# Altium schematic symbol library 7499011121A.SchLib: 1 symbol
Pins are listed as number, name and electrical type; pins without a type are passive.

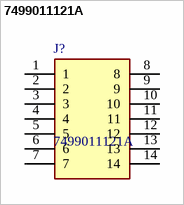
[diagram p0: symbol 7499011121A]

## 7499011121A
designator J?
Wurth Elektronik Through Hole RJ45 Connector Female; Geometry.Height: 13mm; Mouser Part Number: 710-7499011121A; Mouser Price/Stock: https://www.mouser.co.uk/ProductDetail/Wurth-Elektronik/7499011121A?qs=SaTeGCoDkn2VpWS6B7hWdg%3D%3D; Manufacturer_Name: Wurth Elektronik; Manufacturer_Part_Number: 7499011121A; Datasheet Link: https://katalog.we-online.com/pbs/datasheet/7499011121A.pdf
footprint 7499011121A
pins: 1, 2, 3, 4, 5, 6, 7, 8, 9, 10, 11, 12, 13, 14